# EAGLE library part MICRO-USB (library (custom)-connectors-and-modules)
Micro USB from Molex CONN RCPT 5POS MICRO USB R/A Datasheet <http://www.molex.com/pdm_docs/sd/473460001_sd.pdf>
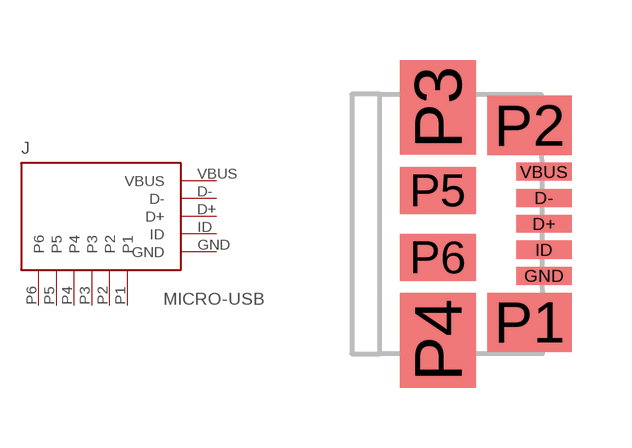
[diagram p10: symbol with the pads of MICRO_USB; footprint MICRO_USB]

Designator prefix J

## MICRO-USB (MPN: 47346-0001; PARTNO: AS-ITM-00021)  [MICRO_USB]
D+  D+
D-  D-
GND  GND
ID  ID
P1  P1
P2  P2
P3  P3
P4  P4
P5  P5
P6  P6
VBUS  VBUS

## Footprint MICRO_USB (pad centres in mm)
Molex Micro-USB
smd 1.38 x 0.45: D+ 2.66,0; D- 2.66,0.65; GND 2.66,-1.3; ID 2.66,-0.65; VBUS 2.66,1.3
smd 2.1 x 1.475: P1 2.3,-2.462; P2 2.3,2.462
smd 1.9 x 2.375: P3 0,2.913; P4 0,-2.913
smd 1.9 x 1.175: P5 0,0.838; P6 0,-0.838